# Altium footprint library PCB - LEADED - SOT - TI 6SOT DDC.PCBLIB: 1 footprints
Each footprint in its own frame and in the unit in brackets; x right, y up, seen from the top. Pads: shape width x height; smd on the part's side, far side on the other; paste and mask are expansions set on the pad; w line width, h text height; cw(c..) or ccw(c..) is an arc to the next point about the centre after c.
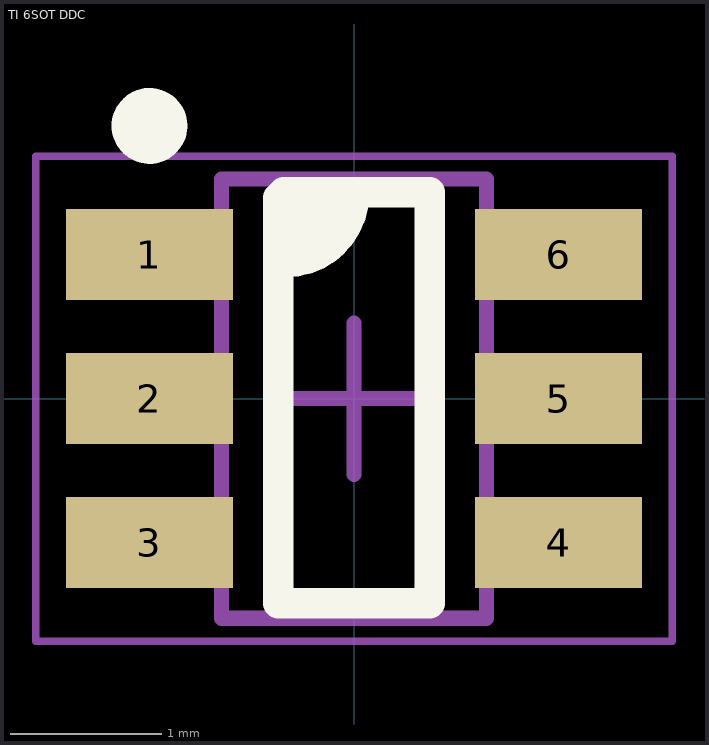
[diagram p0: the footprint, top view; thin cyan lines are the x and y axes]

## TI 6SOT DDC [mm] "6SOT DDCR, 6-Leads, Body 2.90x2.80mm, Pitch 0.95mm, IPC Medium Density"
height 1.1
pads (6):
  rect 1.1x0.6 smd mask+0.07: 1(-1.35,0.95) 2(-1.35,0) 3(-1.35,-0.95) 4(1.35,-0.95) 5(1.35,0) 6(1.35,0.95)
Top Overlay:
  circle w0.25: c-1.35,1.8 r0.125
  region: -0.388,1.287 0,1.4 0,1.25 -0.3,0.95 -0.5,0.95
  lines w0.2: -0.5,1.1 -0.45,1.1 ; -0.45,0.9 ccw(c-0.45,1.35) 0,1.35 ; -0.5,-1.35 0.5,-1.35 0.5,1.362 -0.463,1.362 -0.5,1.325 -0.5,-1.35
Mechanical 13:
  lines w0.1: -0.875,-1.45 0.875,-1.45 0.875,1.45 -0.875,1.45 -0.875,-1.45
Mechanical 15:
  lines w0.05: -2.1,-1.6 2.1,-1.6 2.1,1.6 -2.1,1.6 -2.1,-1.6
  lines w0.1: -0.5,0 0.5,0 ; 0,-0.5 0,0.5
3D body "TI - SOT6 - DCCR.step": height 1.09, standoff -0.01, extent -1.521,-1.447 1.506,1.453